# EAGLE library part MG2639 (library gps-gsm)
GSM850/EGSM900/DCS1800/PCS1900 by ZTE Corporation CHINA
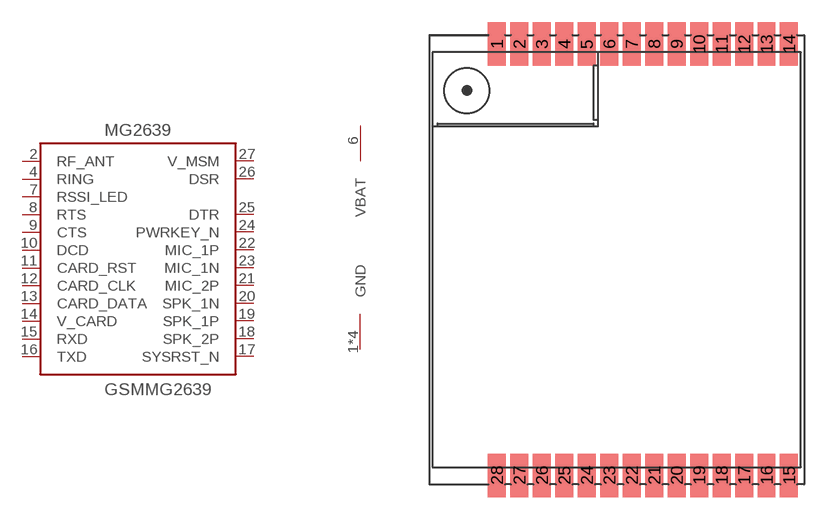
[diagram p21: symbol with the pads of MG2639; footprint MG2639]

Designator prefix GSM; gates MG2639=MG2639 G$2=VCC G$3=GND

## MG2639  [MG2639]
1  G$3:GND  pwr
2  MG2639:RF_ANT
3  G$3:GND  pwr
4  MG2639:RING  out
5  G$3:GND  pwr
6  G$2:VBAT  pwr
7  MG2639:RSSI_LED  out
8  MG2639:RTS
9  MG2639:CTS  out
10  MG2639:DCD  out
11  MG2639:CARD_RST  out
12  MG2639:CARD_CLK  out
13  MG2639:CARD_DATA
14  MG2639:V_CARD  out
15  MG2639:RXD  in
16  MG2639:TXD  out
17  MG2639:SYSRST_N  in
18  MG2639:SPK_2P  out
19  MG2639:SPK_1P  out
20  MG2639:SPK_1N  out
21  MG2639:MIC_2P  in
22  MG2639:MIC_1P  in
23  MG2639:MIC_1N  in
24  MG2639:PWRKEY_N  in
25  MG2639:DTR  in
26  MG2639:DSR  out
27  MG2639:V_MSM  out
28  G$3:GND  pwr

## Footprint MG2639 (pad centres in mm)
smd 1.2 x 2.9: 1 -9,14.4; 2 -7.5,14.4; 3 -6,14.4; 4 -4.5,14.4; 5 -3,14.4; 6 -1.5,14.4; 7 0,14.4; 8 1.5,14.4; 9 3,14.4; 10 4.5,14.4; 11 6,14.4; 12 7.5,14.4; 13 9,14.4; 14 10.5,14.4; 15 10.5,-14.4; 16 9,-14.4; 17 7.5,-14.4; 18 6,-14.4; 19 4.5,-14.4; 20 3,-14.4; 21 1.5,-14.4; 22 0,-14.4; 23 -1.5,-14.4; 24 -3,-14.4; 25 -4.5,-14.4; 26 -6,-14.4; 27 -7.5,-14.4; 28 -9,-14.4